# EAGLE library part ISO1042BQDWVQ1 (library SamacSys_Parts)
CAN Interface IC ISO1042BQDWV/RQ1 - M.2 TCAN1042 AUTOB Source: Datasheet <https://www.arrow.com/en/products/iso1042bqdwvq1/texas-instruments>
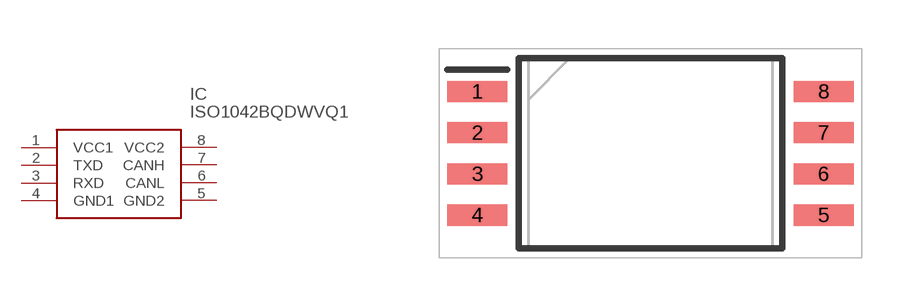
[diagram p0: symbol with the pads of SOIC127P1150X280-8N; footprint SOIC127P1150X280-8N]

Designator prefix IC

## ISO1042BQDWVQ1 (Description: CAN Interface IC ISO1042BQDWV/RQ1 - M.2 TCAN1042 AUTOB; Height: 2.8mm; Manufacturer_Name: Texas Instruments; Manufacturer_Part_Number: ISO1042BQDWVQ1; Mouser_Part_Number: 595-ISO1042BQDWVQ1; Mouser_Price-Stock: https://www.mouser.co.uk/ProductDetail/Texas-Instruments/ISO1042BQDWVQ1?qs=byeeYqUIh0PyMuwwywRJXg%3D%3D)  [SOIC127P1150X280-8N]
1  VCC1
2  TXD
3  RXD
4  GND1
5  GND2
6  CANL
7  CANH
8  VCC2

## Footprint SOIC127P1150X280-8N (pad centres in mm)
ISO1042BQDWVQ1
smd 1.85 x 0.65: 1 -5.325,1.905; 2 -5.325,0.635; 3 -5.325,-0.635; 4 -5.325,-1.905; 5 5.325,-1.905; 6 5.325,-0.635; 7 5.325,0.635; 8 5.325,1.905